# Altium footprint library PDM Mk21 - Mini.PcbLib: 6 footprints
Each footprint in its own frame and in the unit in brackets; x right, y up, seen from the top. Pads: shape width x height; smd on the part's side, far side on the other; paste and mask are expansions set on the pad; w line width, h text height; cw(c..) or ccw(c..) is an arc to the next point about the centre after c.
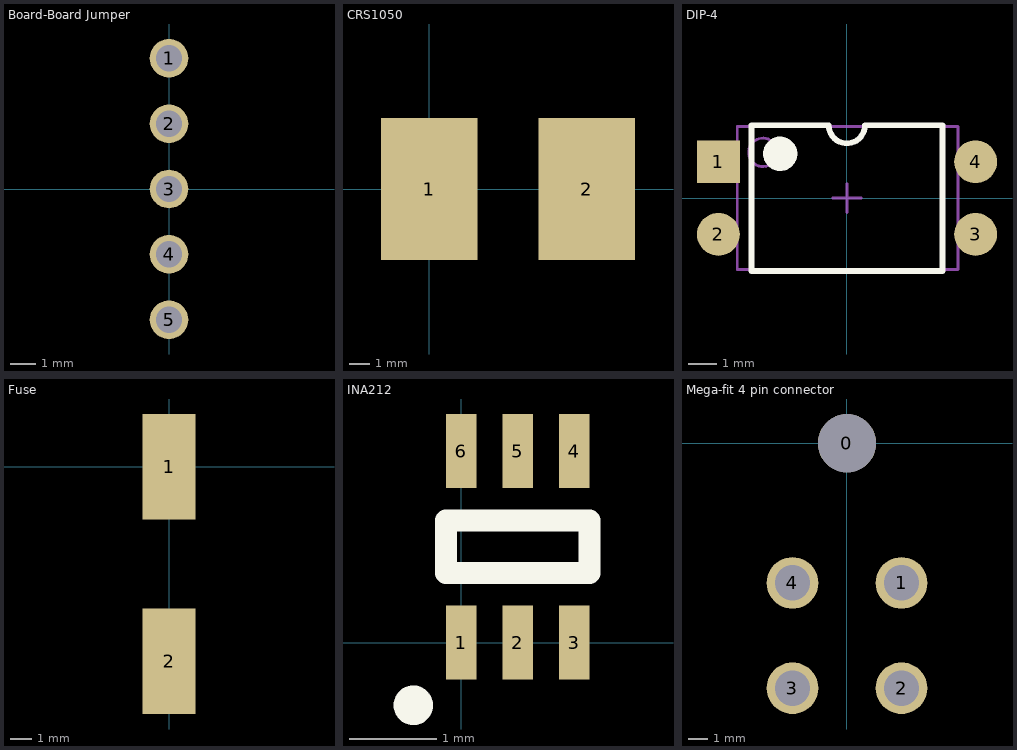
[diagram p0: the footprints below, top view; thin cyan lines are the x and y axes]

## Board-Board Jumper [mm] "Board to board 2.54mm header pins"
pads (5):
  round 1.5 hole 1.02: 1(0,5.08) 2(0,2.54) 3(0,0) 4(0,-2.54) 5(0,-5.08)
3D body "Pin Header 1x5 TH Pitch 2.54mm.stp": height 9.5, standoff -3.2, extent -1.27,-6.35 1.27,6.35

## CRS1050 [mm] "3mOhm current shunt resistor footprint"
pads (2):
  rect 4.75x7 smd: 1(0,0) 2(7.75,0)
3D body: height 0.9, standoff 0, extent -1.375,-2.5 9.125,2.5

## DIP-4 [mm] "DIP; 4 Leads; Row Spacing 7.62 mm; Pitch 2.54 mm"
height 5.6
pads (4):
  rect 1.5x1.5 smd: 1(-4.5,1.27)
  round 1.5 smd: 2(-4.5,-1.27) 3(4.5,-1.27) 4(4.5,1.27)
Top Overlay:
  circle w0.6: c-2.34,1.55 r0.3
  lines w0.2: -3.34,-2.55 -3.34,2.55 -0.64,2.55 ccw(c-0.005,2.55) 0.63,2.55 3.34,2.55 3.34,-2.55 -3.34,-2.55
Mechanical 13:
  circle w0.1: c-2.94,1.6 r0.5
  lines w0.1: -3.84,-2.5 -3.84,2.5 3.89,2.5 3.89,-2.5 -3.84,-2.5
Mechanical 15:
  lines w0.1: -0.5,0 0.5,0 ; 0,-0.5 0,0.5
3D body: height 5.6, standoff 0, extent -3.84,-2.5 3.89,2.5

## Fuse [mm] "Surface mount pads for standard self-resetting fuse"
pads (2):
  rect 2.5x5 smd: 1(0,0) 2(0,-9.2)

## INA212 [mm] "Current Amplifier"
pads (6):
  rect 0.35x0.85 smd: 1(0,0) 2(0.65,0) 3(1.3,0) 4(1.3,2.2) 5(0.65,2.2) 6(0,2.2)
Top Overlay:
  circle w0.254: c-0.55,-0.72 r0.1
  lines w0.254: -0.175,0.8 1.475,0.8 1.475,1.4 -0.175,1.4 -0.175,0.8
3D body: height 1.1, standoff 0.1, extent -0.42,0.4 1.73,1.8

## Mega-fit 4 pin connector [mm] "MOLEX mega-fit 4 pin connector"
pads (5):
  round 3.05 hole 3.05: 0(0,0)
  round 2.7 hole 1.85: 1(2.85,-7.3) 2(2.85,-12.8) 3(-2.85,-12.8) 4(-2.85,-7.3)
3D body "768250004.stp": height 15.62, standoff -2.52, extent -6.03,-13.362 6.03,8.6